# Altium footprint library PAY.PcbLib: 14 footprints
Each footprint in its own frame and in the unit in brackets; x right, y up, seen from the top. Pads: shape width x height; smd on the part's side, far side on the other; paste and mask are expansions set on the pad; w line width, h text height; cw(c..) or ccw(c..) is an arc to the next point about the centre after c.
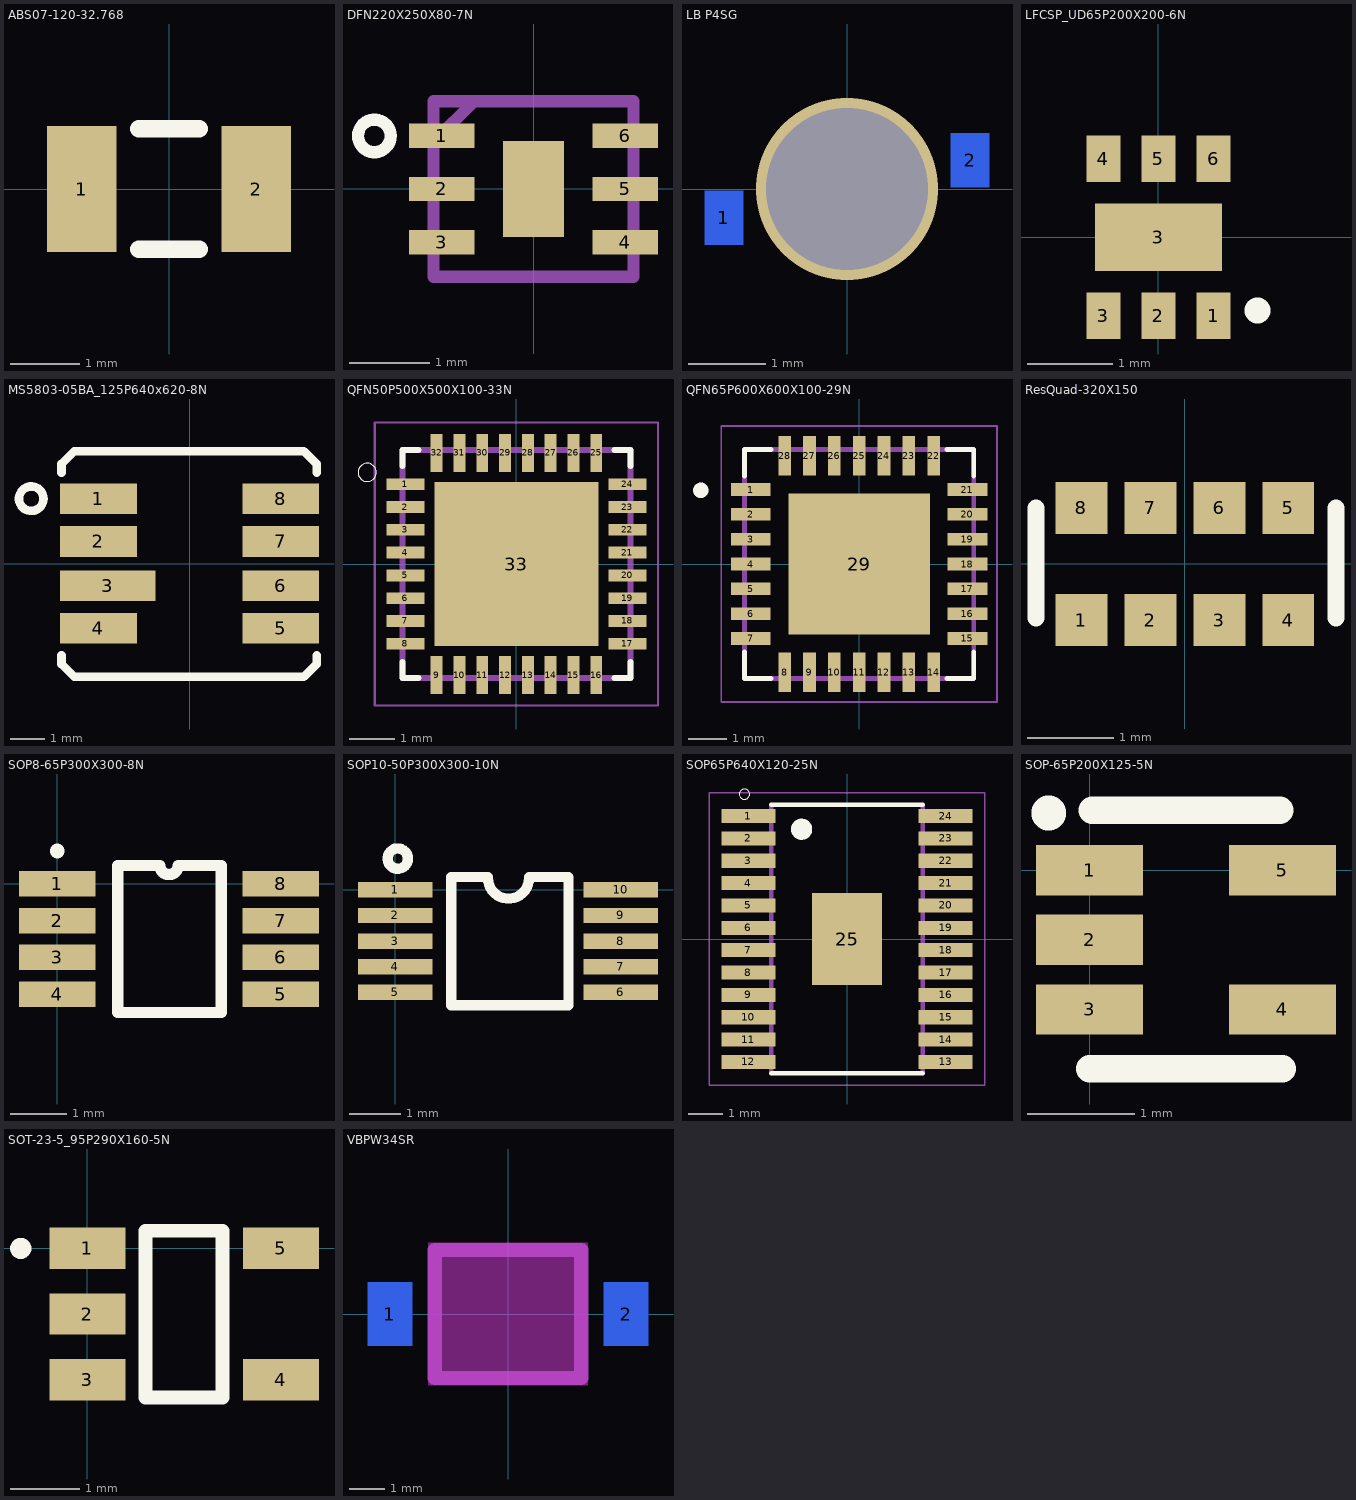
[diagram p0: the footprints below, top view; thin cyan lines are the x and y axes]

## ABS07-120-32.768 [mm] "32.768 kHz crystal"
pads (2):
  rect 1x1.8 smd: 1(-1.25,0) 2(1.25,0)
Top Overlay:
  lines w0.254: -0.432,-0.864 0.432,-0.864 ; -0.432,0.864 0.432,0.864
3D body "ABS07-120 v1.step": height 0.89, standoff 0, extent -1.603,-0.752 1.603,0.752

## DFN220X250X80-7N [mil]
pads (7):
  rect 32x12 smd: 1(-45,26) 2(-45,0) 3(-45,-26) 4(45,-26) 5(45,0) 6(45,26)
  rect 30x47 smd: ""(0,0)
Top Overlay:
  lines w0: -73.94,19.03 cw(c-77.64,26) -73.94,32.97
  lines w6: -86,26 ccw(c-78,26) -70,26 ccw(c-78,26) -86,26
Mechanical 1:
  lines w6: -49,23 -29,43 ; -49,-43 49,-43 49,43 -49,43 -49,-43
3D body "SDB06A.stp": height 24.09, standoff 0, extent -52.99,-45.5 53,45.52

## LB P4SG [mm] "Footprint for a reverse-mount Osram LED"
pads (2):
  rect 0.5x0.7 smd far side mask+0.102: 1(-1.6,-0.375) 2(1.6,0.375)
via 0,0 diameter 2.362 hole 2.1
Bottom Overlay:
  circle w0.254: c-1.549,0.305 r0.036

## LFCSP_UD65P200X200-6N [mm] "Footprint for ADPD2210 current amplifier"
height 0.55
pads (7):
  rect 0.4x0.55 smd: 1(0.65,-0.925) 2(0,-0.925) 3(-0.65,-0.925) 4(-0.65,0.925) 5(0,0.925) 6(0.65,0.925)
  rect 1.5x0.8 smd: 3(0,0)
Top Layer:
  pour cut-out: 1.575,2.337
Top Overlay:
  circle w0.254: c1.168,-0.864 r0.025

## MS5803-05BA_125P640x620-8N [mm] "Footprint for the MS5803-05BA pressure sensor"
height 2.88
pads (8):
  rect 2.25x0.9 smd: 1(-2.675,1.9) 2(-2.675,0.65) 4(-2.675,-1.9) 5(2.675,-1.9) 6(2.675,-0.65) 7(2.675,0.65) 8(2.675,1.9)
  rect 2.8x0.9 smd: 3(-2.4,-0.65)
Top Overlay:
  circle w0.254: c-4.648,1.905 r0.359
  lines w0.254: -3.759,-2.692 -3.759,-2.946 -3.378,-3.327 3.353,-3.327 3.734,-2.946 3.734,-2.692 ; -3.759,2.667 -3.759,2.921 -3.378,3.302 3.353,3.302 3.734,2.921 3.734,2.667
3D body "MS580305BA01-00 v15.step": height 2.88, standoff 0, extent -3.175,-3.099 3.225,3.101

## QFN50P500X500X100-33N [mm]
pads (33):
  rect 0.84x0.26 smd: 1(-2.435,1.75) 2(-2.435,1.25) 3(-2.435,0.75) 4(-2.435,0.25) 5(-2.435,-0.25) 6(-2.435,-0.75) 7(-2.435,-1.25) 8(-2.435,-1.75) 17(2.435,-1.75) 18(2.435,-1.25) 19(2.435,-0.75) 20(2.435,-0.25) 21(2.435,0.25) 22(2.435,0.75) 23(2.435,1.25) 24(2.435,1.75)
  rect 0.26x0.84 smd: 9(-1.75,-2.435) 10(-1.25,-2.435) 11(-0.75,-2.435) 12(-0.25,-2.435) 13(0.25,-2.435) 14(0.75,-2.435) 15(1.25,-2.435) 16(1.75,-2.435) 25(1.75,2.435) 26(1.25,2.435) 27(0.75,2.435) 28(0.25,2.435) 29(-0.25,2.435) 30(-0.75,2.435) 31(-1.25,2.435) 32(-1.75,2.435)
  rect 3.6x3.6 smd: 33(0,0)
Top Overlay:
  circle w0: c-3.275,2.01 r0.2
  lines w0.127: -2.5,-2.15 -2.5,-2.5 -2.15,-2.5 ; -2.5,2.15 -2.5,2.5 -2.15,2.5 ; 2.15,-2.5 2.5,-2.5 2.5,-2.15 ; 2.15,2.5 2.5,2.5 2.5,2.15
Top Paste:
  region: 0.23,1.57 1.57,1.57 1.57,0.23 0.23,0.23
  region: -1.572,1.57 -0.23,1.57 -0.23,0.23 -1.572,0.23
  region: -1.573,-0.23 -0.23,-0.23 -0.23,-1.573 -1.573,-1.573
  region: 0.23,-0.23 1.57,-0.23 1.57,-1.572 0.23,-1.572
Mechanical 1:
  circle w0: c-3.275,2.01 r0.2
  lines w0.05: -3.105,-3.105 3.105,-3.105 3.105,3.105 -3.105,3.105 -3.105,-3.105
  lines w0.127: -2.5,-2.5 2.5,-2.5 2.5,2.5 -2.5,2.5 -2.5,-2.5
3D body "CP_32_11.stp": height 0.78, standoff 0, extent -2.55,-2.55 2.55,2.55

## QFN65P600X600X100-29N [mm]
pads (29):
  rect 1.04x0.33 smd: 1(-2.835,1.95) 2(-2.835,1.3) 3(-2.835,0.65) 4(-2.835,0) 5(-2.835,-0.65) 6(-2.835,-1.3) 7(-2.835,-1.95) 15(2.835,-1.95) 16(2.835,-1.3) 17(2.835,-0.65) 18(2.835,0) 19(2.835,0.65) 20(2.835,1.3) 21(2.835,1.95)
  rect 0.33x1.04 smd: 8(-1.95,-2.835) 9(-1.3,-2.835) 10(-0.65,-2.835) 11(0,-2.835) 12(0.65,-2.835) 13(1.3,-2.835) 14(1.95,-2.835) 22(1.95,2.835) 23(1.3,2.835) 24(0.65,2.835) 25(0,2.835) 26(-0.65,2.835) 27(-1.3,2.835) 28(-1.95,2.835)
  rect 3.7x3.7 smd: 29(0,0)
Top Overlay:
  circle w0.2: c-4.145,1.93 r0.1
  lines w0.127: -3,-2.3 -3,-3 -2.3,-3 ; -3,2.3 -3,3 -2.3,3 ; 2.3,-3 3,-3 3,-2.3 ; 2.3,3 3,3 3,2.3
Top Paste:
  region: -1.616,1.17 1.17,1.17 1.17,-1.616 -1.616,-1.616
Mechanical 1:
  circle w0.2: c-4.145,1.93 r0.1
  lines w0.05: -3.61,-3.61 3.61,-3.61 3.61,3.61 -3.61,3.61 -3.61,-3.61
  lines w0.127: -3,-3 3,-3 3,3 -3,3 -3,-3

## ResQuad-320X150 [mm] "Concave terminal quad pack resistor."
height 0.6
pads (8):
  rect 0.6x0.6 smd: 1(-1.2,-0.65) 2(-0.4,-0.65) 3(0.4,-0.65) 4(1.2,-0.65) 5(1.2,0.65) 6(0.4,0.65) 7(-0.4,0.65) 8(-1.2,0.65)
Top Overlay:
  lines w0.2: -1.727,-0.625 -1.727,0.65 ; 1.753,-0.625 1.753,0.65

## SOP8-65P300X300-8N [mm]
pads (8):
  rect 1.35x0.45 smd: 1(0,0) 2(0,-0.65) 3(0,-1.3) 4(0,-1.95) 5(3.95,-1.95) 6(3.95,-1.3) 7(3.95,-0.65) 8(3.95,0)
Top Overlay:
  lines w0.2: 1.067,-2.275 1.067,0.325 1.813,0.325 ccw(c1.975,0.325) 2.137,0.325 2.896,0.325 2.896,-2.275 1.067,-2.275
  lines w0.254: -0.002,0.573 ccw(c-0.036,0.584) 0,0.584
3D body "RM_8.stp": height 0.95, standoff 0, extent -0.644,-2.465 4.506,0.535

## SOP10-50P300X300-10N [mm]
pads (10):
  rect 1.45x0.3 smd: 1(0,0) 2(0,-0.5) 3(0,-1) 4(0,-1.5) 5(0,-2) 6(4.4,-2) 7(4.4,-1.5) 8(4.4,-1) 9(4.4,-0.5) 10(4.4,0)
Top Overlay:
  circle w0.2: c0.051,0.61 r0.198
  lines w0.2: 1.803,0.25 1.092,0.25 1.092,-2.25 3.378,-2.25 3.378,0.25 2.616,0.25 ; 1.81,0.229 ccw(c2.21,0.229) 2.61,0.229
3D body "DGS10.stp": height 1.09, standoff 0, extent -0.292,-2.565 4.762,0.533

## SOP65P640X120-25N [mm]
pads (25):
  rect 1.57x0.41 smd: 1(-2.87,3.575) 2(-2.87,2.925) 3(-2.87,2.275) 4(-2.87,1.625) 5(-2.87,0.975) 6(-2.87,0.325) 7(-2.87,-0.325) 8(-2.87,-0.975) 9(-2.87,-1.625) 10(-2.87,-2.275) 11(-2.87,-2.925) 12(-2.87,-3.575) 13(2.87,-3.575) 14(2.87,-2.925) 15(2.87,-2.275) 16(2.87,-1.625) 17(2.87,-0.975) 18(2.87,-0.325) 19(2.87,0.325) 20(2.87,0.975) 21(2.87,1.625) 22(2.87,2.275) 23(2.87,2.925) 24(2.87,3.575)
  rect 2.025x2.68 smd: 25(0,0)
Top Overlay:
  circle w0: c-2.98,4.21 r0.15
  circle w0.127: c-1.32,3.19 r0.246
  circle w0.127: c-1.43,3.19 r0.11
  circle w0.127: c-1.43,3.19 r0.11
  circle w0.127: c-1.32,3.19 r0.11
  circle w0.127: c-1.32,3.19 r0.156
  lines w0.127: -2.2,-3.9 2.2,-3.9 ; -2.2,3.9 2.2,3.9
Top Paste:
  region: 0.11,1.11 0.79,1.11 0.79,0.11 0.11,0.11
  region: -0.792,-0.11 -0.11,-0.11 -0.11,-1.112 -0.792,-1.112
  region: 0.11,-0.11 0.79,-0.11 0.79,-1.113 0.11,-1.113
  region: -0.11,0.11 -0.791,0.11 -0.791,1.11 -0.11,1.11
Mechanical 1:
  lines w0.05: -4,-4.25 -4,4.25 4,4.25 4,-4.25 -4,-4.25
  lines w0.127: -2.2,-3.9 -2.2,3.9 ; 2.2,-3.9 2.2,3.9

## SOP-65P200X125-5N [mm]
pads (5):
  rect 1x0.47 smd: 1(0,0) 2(0,-0.65) 3(0,-1.3) 4(1.8,-1.3) 5(1.8,0)
Top Overlay:
  circle w0.254: c-0.381,0.533 r0.036
  lines w0.254: 0,-1.854 1.8,-1.854 ; 0.025,0.559 1.778,0.559
3D body "KS_5.stp": height 1.7, standoff 0, extent -0.28,-1.74 2.108,0.47

## SOT-23-5_95P290X160-5N [mm]
pads (5):
  rect 1.1x0.6 smd: 1(0,0) 2(0,-0.95) 3(0,-1.9) 4(2.8,-1.9) 5(2.8,0)
Top Overlay:
  circle w0.254: c-0.965,0 r0.025
  lines w0.2: 0.838,-2.159 1.956,-2.159 1.956,0.254 1.727,0.254 1.092,0.254 0.838,0.254 0.838,-2.159
3D body "UJ_5.stp": height 0.99, standoff 0, extent 0,-2.388 2.794,0.508

## VBPW34SR [mm] "Silicon PIN photodiode"
height 1.2
pads (2):
  rect 1.25x1.8 smd far side: 1(-3.325,0) 2(3.325,0)
Bottom Overlay:
  circle w0.254: c-2.845,1.321 r0.102
Keep-Out Layer:
  board cut-out: -2.25,2 2.25,2 2.25,-2 -2.25,-2
Mechanical 1:
  text "CUT OUT" at -1.626,-0.178 h0.5
Route Tool Path:
  lines w0.406: -2.057,-1.803 -2.057,1.803 2.057,1.803 2.057,-1.803 -2.057,-1.803